# Altium footprint library ESPWROOM32D.PcbLib: 1 footprints
Each footprint in its own frame and in the unit in brackets; x right, y up, seen from the top. Pads: shape width x height; smd on the part's side, far side on the other; paste and mask are expansions set on the pad; w line width, h text height; cw(c..) or ccw(c..) is an arc to the next point about the centre after c.
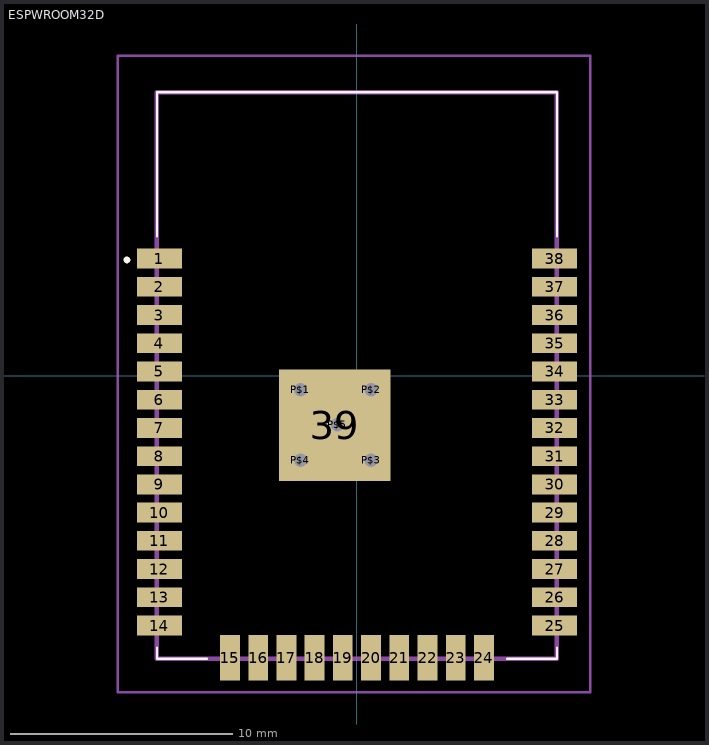
[diagram p0: the footprint, top view; thin cyan lines are the x and y axes]

## ESPWROOM32D [mil]
pads (44):
  rect 80x35 smd: 1(-350,207.09) 2(-350,157.09) 3(-350,107.09) 4(-350,57.09) 5(-350,7.09) 6(-350,-42.91) 7(-350,-92.91) 8(-350,-142.91) 9(-350,-192.91) 10(-350,-242.91) 11(-350,-292.91) 12(-350,-342.91) 13(-350,-392.91) 14(-350,-442.91) 25(350,-442.91) 26(350,-392.91) 27(350,-342.91) 28(350,-292.91) 29(350,-242.91) 30(350,-192.91) 31(350,-142.91) 32(350,-92.91) 33(350,-42.91) 34(350,7.09) 35(350,57.09) 36(350,107.09) 37(350,157.09) 38(350,207.09)
  rect 35x80 smd: 15(-225,-500) 16(-175,-500) 17(-125,-500) 18(-75,-500) 19(-25,-500) 20(25,-500) 21(75,-500) 22(125,-500) 23(175,-500) 24(225,-500)
  rect 196.85x196.85 smd: 39(-39.37,-88.19)
  round 43.62 hole 23.62: P$1(-100,-25) P$2(25,-25) P$3(25,-150) P$4(-100,-150) P$5(-35,-87.5)
Top Overlay:
  lines w3.94: -354.33,-482.28 -354.33,-501.97 -265.75,-501.97 ; -354.33,246.06 -354.33,501.97 354.33,501.97 354.33,246.06 ; 265.75,-501.97 354.33,-501.97 354.33,-482.28
  lines w7.87: -409.45,204.72 ccw(c-407.48,204.72) -405.51,204.72 ; -409.45,204.72 cw(c-407.48,204.72) -405.51,204.72 ; -409.45,204.72 ccw(c-407.48,204.72) -405.51,204.72
Mechanical 13:
  lines w3.94: -423.82,-561.02 413.39,-561.02 413.39,566.34 -423.82,566.34 -423.82,-561.02
  lines w7.87: -354.33,-501.97 354.33,-501.97 354.33,501.97 -354.33,501.97 -354.33,-501.97